# EAGLE library part MA06-2 (library con-lstb-custom)
PIN HEADER
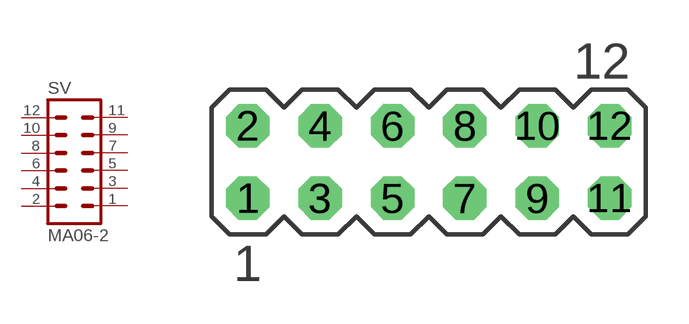
[diagram p9: symbol with the pads of MA06-2; footprint MA06-2]

Designator prefix SV

## MA06-2 (OC_FARNELL: unknown; OC_NEWARK: unknown)  [MA06-2]
1  1  pas
2  2  pas
3  3  pas
4  4  pas
5  5  pas
6  6  pas
7  7  pas
8  8  pas
9  9  pas
10  10  pas
11  11  pas
12  12  pas

## Footprint MA06-2 (pad centres in mm)
PIN HEADER
drill 1.016 octagon: 1 -6.35,-1.27; 2 -6.35,1.27; 3 -3.81,-1.27; 4 -3.81,1.27; 5 -1.27,-1.27; 6 -1.27,1.27; 7 1.27,-1.27; 8 1.27,1.27; 9 3.81,-1.27; 10 3.81,1.27; 11 6.35,-1.27; 12 6.35,1.27